# Altium footprint library CAPAE1000X1050N.PcbLib: 1 footprints
Each footprint in its own frame and in the unit in brackets; x right, y up, seen from the top. Pads: shape width x height; smd on the part's side, far side on the other; paste and mask are expansions set on the pad; w line width, h text height; cw(c..) or ccw(c..) is an arc to the next point about the centre after c.
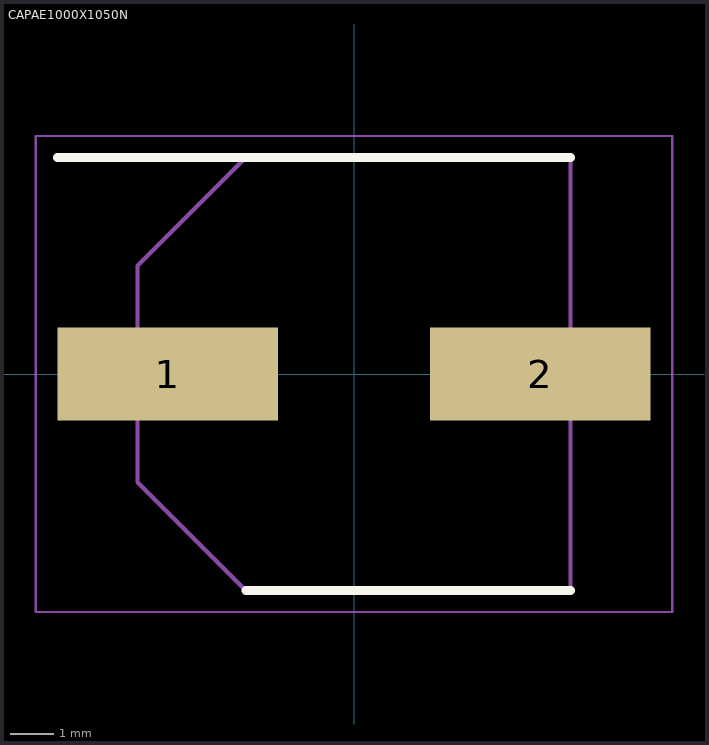
[diagram p0: the footprint, top view; thin cyan lines are the x and y axes]

## CAPAE1000X1050N [mm]
pads (2):
  rect 5.1x2.15 smd: 1(-4.3,0) 2(4.3,0)
Top Overlay:
  lines w0.2: -6.85,5 5,5 ; -2.5,-5 5,-5
Mechanical 15:
  lines w0.1: -5,-2.5 -5,2.5 -2.5,5 5,5 5,-5 -2.5,-5 -5,-2.5
Mechanical 20:
  lines w0.05: -7.35,-5.5 7.35,-5.5 7.35,5.5 -7.35,5.5 -7.35,-5.5